# Altium schematic symbol library Microphone_array.SchLib: 27 symbols
Pins are listed as number, name and electrical type; pins without a type are passive.

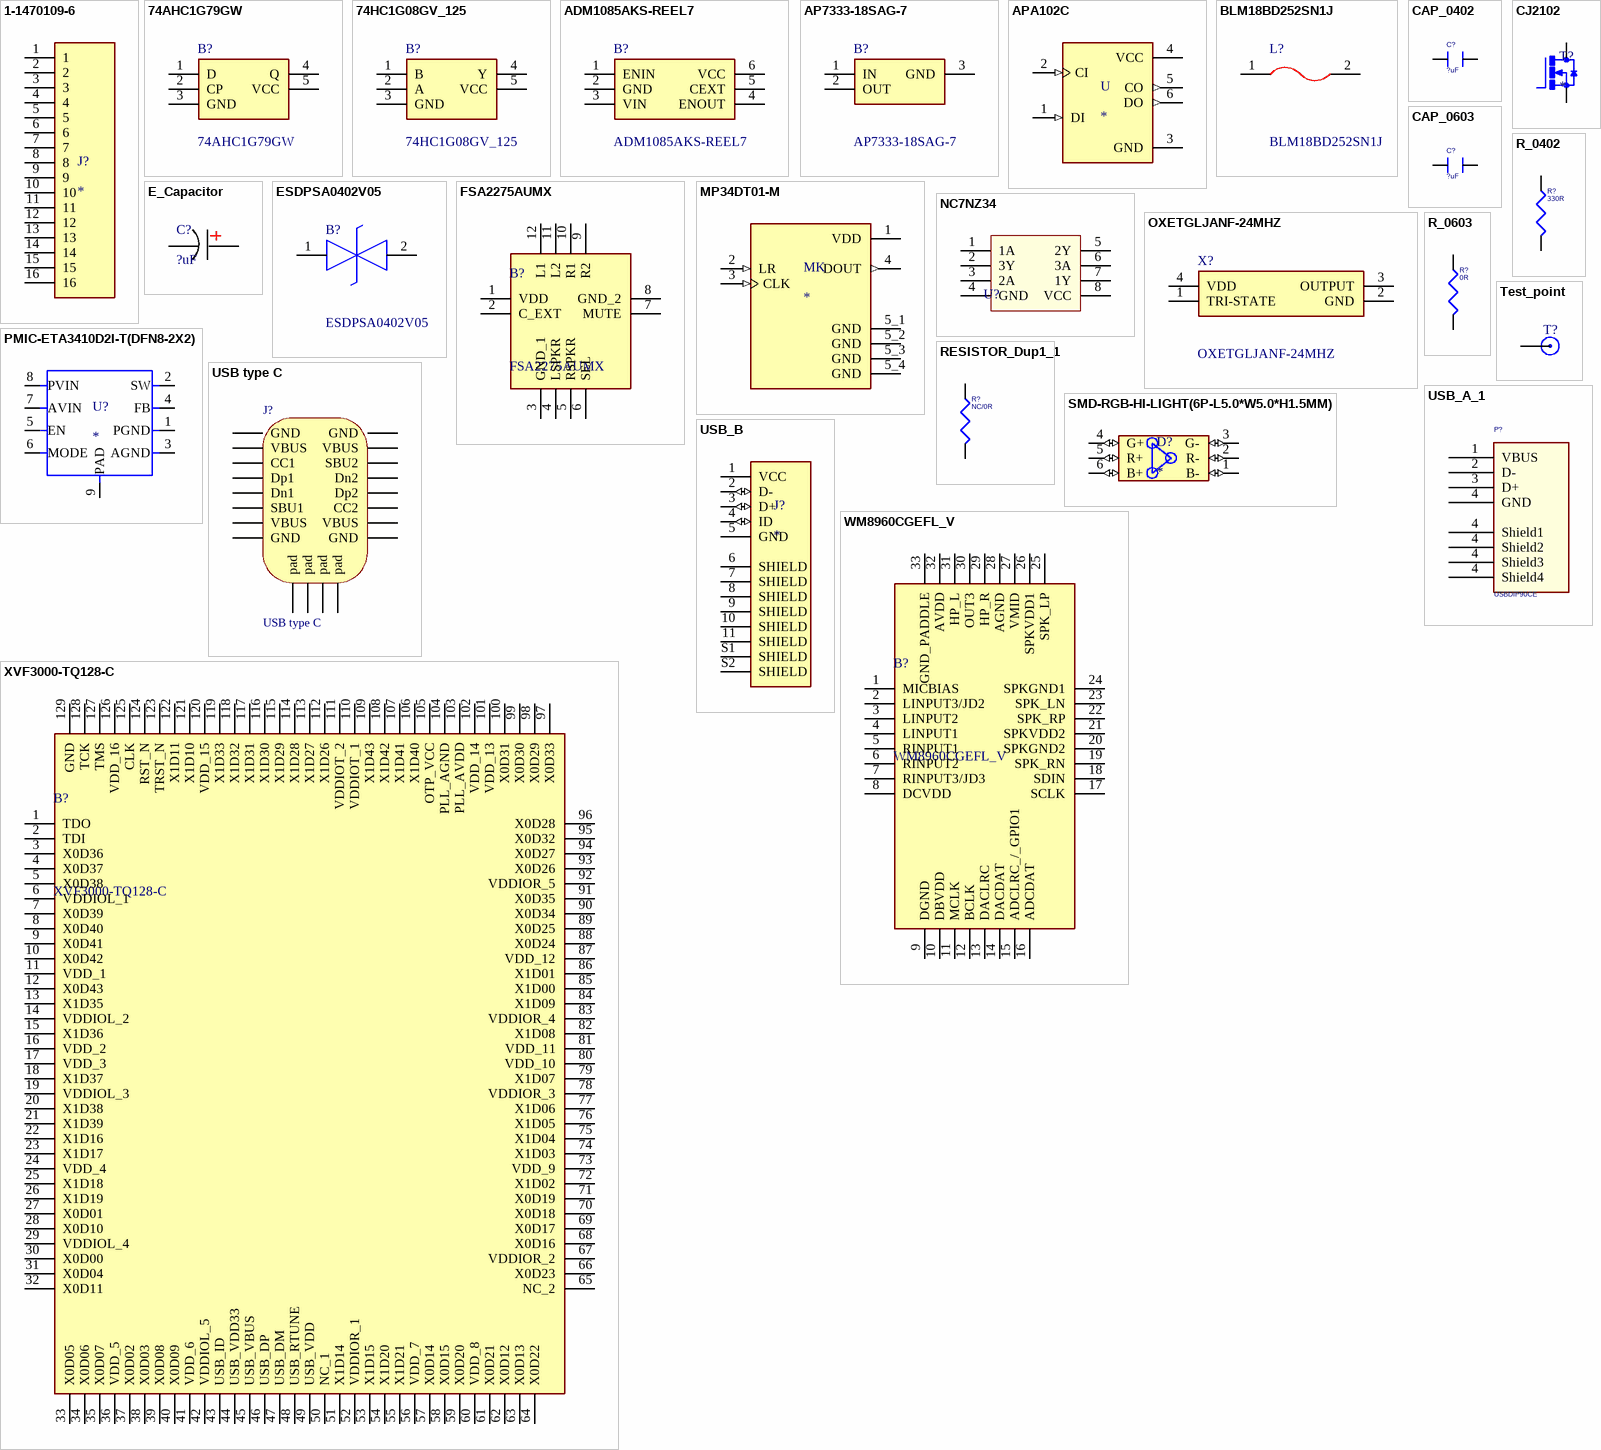
[diagram p0: symbols 1-1470109-6 to XVF3000-TQ128-C]

## 1-1470109-6
designator J?
MP: 1-1470109-6; Package: None; Price: None; Value: *; Availability: Unavailable
footprint TE_1-1470109-6
pins: 1, 2, 3, 4, 5, 6, 7, 8, 9, 10, 11, 12, 13, 14, 15, 16

## 74AHC1G79GW
designator B?
NXP 74AHC1G79GW, Flip Flop IC, Single Ended, 2  5.5 V, 5-Pin TSSOP; Manufacturer_Name: Nexperia; Geometry.Height: 1.1mm; Manufacturer_Part_Number: 74AHC1G79GW; Mouser Part Number: N/A; Mouser Price/Stock: https://www.mouser.com/Search/Refine.aspx?Keyword=N%2FA; Arrow Part Number: *; Arrow Price/Stock: *; Datasheet Link: https://datasheet.datasheetarchive.com/originals/distributors/Datasheets-301/11791.pdf
footprint SOT65P212X110-5N
pins: 1 D, 2 CP, 3 GND, 4 Q, 5 VCC

## 74HC1G08GV_125
designator B?
74HC(T)1G08 - 2-input AND gate@en-us; Manufacturer_Name: Nexperia; Manufacturer_Part_Number: 74HC1G08GV,125; Geometry.Height: 1.1mm; Mouser Part Number: 771-74HC1G08GV; Mouser Price/Stock: https://www.mouser.co.uk/ProductDetail/Nexperia/74HC1G08GV125?qs=P62ublwmbi9shys2yLaZlQ%3D%3D; Arrow Part Number: 74HC1G08GV,125; Arrow Price/Stock: https://www.arrow.com/en/products/74hc1g08gv125/nexperia?region=nac; Datasheet Link: https://assets.nexperia.com/documents/data-sheet/74HC_HCT1G08.pdf
footprint SOT65P212X110-5N
pins: 1 B, 2 A, 3 GND, 4 Y, 5 VCC

## ADM1085AKS-REEL7
designator B?
IC SIMPLE SEQUENCER OD SC70-6; Manufacturer_Name: Analog Devices; Geometry.Height: 1.1mm; Manufacturer_Part_Number: ADM1085AKS-REEL7; Mouser Part Number: *; Mouser Price/Stock: *; Arrow Part Number: *; Arrow Price/Stock: *; Datasheet Link: http://www.analog.com/media/en/technical-documentation/data-sheets/ADM1085_1086_1087.pdf
footprint SOT65P210X110-6N
pins: 1 ENIN, 2 GND, 3 VIN, 4 ENOUT, 5 CEXT, 6 VCC

## AP7333-18SAG-7
designator B?
Diodes Inc AP7333-18SAG-7, Single Linear Voltage Regulator, 300mA 1.8 V, +/-2%, 3-Pin SOT-23; Manufacturer_Name: Diodes Inc.; Geometry.Height: 1.35mm; Manufacturer_Part_Number: AP7333-18SAG-7; Mouser Part Number: 621-AP7333-18SAG-7; Mouser Price/Stock: https://www.mouser.co.uk/ProductDetail/Diodes-Incorporated/AP7333-18SAG-7?qs=vIZ3oKQCLxpEALu0NaomtQ%3D%3D; Arrow Part Number: AP7333-18SAG-7; Arrow Price/Stock: https://www.arrow.com/en/products/ap7333-18sag-7/diodes-incorporated?region=nac; Datasheet Link: https://www.diodes.com/assets/Datasheets/AP7333.pdf
footprint SOT96P240X135-3N
pins: 1 IN, 2 OUT, 3 GND

## APA102C
designator U
Addressable Lighting - 1 LED Discrete Serial Red, Green, Blue _RGB_ 5.00mm L x 5.00mm W; MF: Shiji Lighting; MP: APA102C; Package: SMD-6 Shiji Lightning; Value: *; Availability: Unavailable; SnapEDA_Link: https://www.snapeda.com/parts/APA102C/Shiji%20Lighting/view-part/231897/?ref=snap; Price: None
footprint SON160P500X500X140-6N
pins: 1 DI (in), 2 CI (in), 3 GND (power), 4 VCC (power), 5 CO (out), 6 DO (out)

## BLM18BD252SN1J
designator L?
BLM18_N1J Series EMI Suppression Filter 2500+/-25% at 100MHz 150mA @85; Manufacturer_Name: Murata Electronics; Geometry.Height: 0.95mm; Manufacturer_Part_Number: BLM18BD252SN1J; Mouser Part Number: *; Mouser Price/Stock: *; Arrow Part Number: *; Arrow Price/Stock: *; Datasheet Link: http://www.murata.com/~/media/webrenewal/support/library/catalog/products/emc/emifil/c31e.ashx?la=en-gb
footprint BLM18EG121SH1D
pins: 1, 2

## CAP_0402
designator C?, comment ?uF
CAP ±20%/6.3V/X5R/SMT0402
footprint C0402
pins: 1, 2

## CAP_0603
designator C?, comment ?uF
CAP ±20%/10V/X5R/SMT0603
footprint C0603
pins: 1, 2

## CJ2102
designator T?
N-Channel 20V  2.1ASOT-323; MP: MMBF170; MF: ON Semiconductor; Availability: Unavailable; Package: SOT-23 ON Semiconductor; SnapEDA_Link: https://www.snapeda.com/parts/MMBF170/ON%20Semiconductor/view-part/1400962/?ref=snap; Price: None; Value: *
footprint SOT23 (Footprint not found)
pins: 1 G, 2 S, 3 D

## E_Capacitor
designator C?, comment ?uF
footprint E_Capacitor
pins: 1, 2

## ESDPSA0402V05
designator B?
Polymer ESD Suppressor; Manufacturer_Name: Good-Ark; Geometry.Height: 0.45mm; Manufacturer_Part_Number: ESDPSA0402V05; Mouser Part Number: *; Mouser Price/Stock: *; Arrow Part Number: *; Arrow Price/Stock: *; Datasheet Link: https://4donline.ihs.com/images/VipMasterIC/IC/GOAE/GOAE-S-A0000149384/GOAE-S-A0000149384-1.pdf?hkey=EF798316E3902B6ED9A73243A3159BB0
footprint ESDPSA0402V05
pins: 1 K1, 2 K2

## FSA2275AUMX
designator B?
ON Semiconductor FSA2275AUMX, Audio Switch IC DPDT, 3.3 V dc, 12-Pin UMLP; Manufacturer_Name: onsemi; Geometry.Height: 0.6mm; Manufacturer_Part_Number: FSA2275AUMX; Mouser Part Number: 512-FSA2275AUMX; Mouser Price/Stock: https://www.mouser.co.uk/ProductDetail/ON-Semiconductor-Fairchild/FSA2275AUMX?qs=Mv7BduZupUhxHdQdUdEuNg%3D%3D; Arrow Part Number: FSA2275AUMX; Arrow Price/Stock: https://www.arrow.com/en/products/fsa2275aumx/on-semiconductor; Datasheet Link: https://www.onsemi.com/pub/Collateral/FSA2275A-D.pdf
footprint FSA2275AUMX
pins: 1 VDD, 2 C_EXT, 3 GND_1, 4 LSPKR, 5 RSPKR, 6 SEL, 7 MUTE, 8 GND_2, 9 R2, 10 R1, 11 L2, 12 L1

## MP34DT01-M
designator MK
MP34DT01-M MEMS Omnidirectional Microphones Audio Evaluation Board; MF: STMicroelectronics; Availability: Unavailable; Package: None; SnapEDA_Link: https://www.snapeda.com/parts/MP34DT01-M/STMicroelectronics/view-part/590970/?ref=snap; Price: None; MP: MP34DT01-M; Value: *
footprint MIC_MP34DT01-M (Footprint not found)
pins: 1 VDD (power), 2 LR (in), 3 CLK (in), 4 DOUT (out), 5_1 GND (power), 5_2 GND (power), 5_3 GND (power), 5_4 GND (power)

## NC7NZ34
designator U?
On_Semiconductor
footprint NC7NZ34
pins: 1 1A, 2 3Y, 3 2A, 4 GND, 5 2Y, 6 3A, 7 1Y, 8 VCC

## OXETGLJANF-24MHZ
designator X?
3.3V~3.3V -40~+85 15mA +/-50ppm 24MHz SMD3225-4P Oscillators ROHS; Manufacturer_Name: TAITIEN; Geometry.Height: 1.1mm; Manufacturer_Part_Number: OXETGLJANF-24MHZ; Mouser Part Number: *; Mouser Price/Stock: *; Arrow Part Number: *; Arrow Price/Stock: *; Datasheet Link: https://datasheet.lcsc.com/lcsc/1811052217_TAITIEN-Elec-OXETGLJANF-24MHZ_C295524.pdf
footprint OXETGLJANF24MHZ
pins: 1 TRI-STATE, 2 GND, 3 OUTPUT, 4 VDD

## PMIC-ETA3410D2I-T(DFN8-2X2)
designator U?
310030161; MP: ETA3410D2I-T; Package: None; Price: None; Value: *; Availability: Unavailable
footprint ETA3410
pins: 1 PGND, 2 SW, 3 AGND, 4 FB, 5 EN, 6 MODE, 7 AVIN, 8 PVIN, 9 PAD

## R_0402
designator R?, comment 330R
RES 1/16W 5% SMT0402
footprint R 0603 (1/10W贴片电阻)
pins: 1, 2

## R_0603
designator R?, comment 0R
RES 1/8W 5% SMT0603
footprint R0402
pins: 1, 2

## RESISTOR_Dup1_1
designator R?, comment NC/0R
RES 1/16W 5% SMT0402
footprint R0402
pins: 1, 2

## SMD-RGB-HI-LIGHT(6P-L5.0*W5.0*H1.5MM)
designator D?
Addressable Lighting - 1 LED Discrete PWM Red, Green, Blue (RGB) 5.00mm L x 5.00mm W; MF: SparkFun Electronics; MP: 5050RGB; Check_prices: https://www.snapeda.com/parts/5050RGB/SparkFun+Electronics/view-part/?ref=eda; SnapEDA_Link: https://www.snapeda.com/parts/5050RGB/SparkFun+Electronics/view-part/?ref=snap; Availability: Not in stock; Value: *; Price: None; Package: SparkFun Electronics
footprint LED6-SMD-5050
pins: 1 B- (io), 2 R- (io), 3 G- (io), 4 G+ (io), 5 R+ (io), 6 B+ (io)

## Test_point
designator T?  (value not drawn)
footprint Test_point
pins: 1

## USB type C
designator J?
footprint USB TYPE-C-16PIN_A
footprint TYPEC_D
pins: 1 pad, 1 pad, 1 pad, 1 pad, A1 GND, A4 VBUS, A5 CC1, A6 Dp1, A7 Dn1, A8 SBU1, A9 VBUS, A12 GND, B1 GND, B4 VBUS, B5 CC2, B6 Dp2, B7 Dn2, B8 SBU2, B9 VBUS, B12 GND

## USB_A_1
designator P?, comment USBDIP90CE
USB-AF-04-002 无卷边
footprint USB_A_1
footprint USB-A/S_A (A型直插母头，)
pins: 1 VBUS, 2 D-, 3 D+, 4 GND, 4 Shield1, 4 Shield2, 4 Shield3, 4 Shield4

## USB_B
designator J?
USB - micro B USB 2.0 Receptacle Connector 5 Position Surface Mount, Right Angle; Through Hole; MP: 10103594-0001LF; Value: *; Package: None; Availability: Unavailable; Price: None
footprint AMPHENOL_10103594-0001LF
pins: 1 VCC (power), 2 D- (io), 3 D+ (io), 4 ID (io), 5 GND (power), 6 SHIELD, 7 SHIELD, 8 SHIELD, 9 SHIELD, 10 SHIELD, 11 SHIELD, S1 SHIELD, S2 SHIELD

## WM8960CGEFL_V
designator B?
Interface - CODECs Stereo CODEC with 1W DRIVER; Manufacturer_Name: Cirrus Logic; Manufacturer_Part_Number: WM8960CGEFL/V; Geometry.Height: 1mm; Mouser Part Number: 238-WM8960CGEFL/V; Mouser Price/Stock: https://www.mouser.co.uk/ProductDetail/Cirrus-Logic/WM8960CGEFL-V?qs=G8wrXCBxhFteielmzwPrEw%3D%3D; Arrow Part Number: *; Arrow Price/Stock: *; Datasheet Link: https://componentsearchengine.com/Datasheets/1/WM8960CGEFL_V.pdf
footprint QFN50P500X500X100-33N
pins: 1 MICBIAS, 2 LINPUT3/JD2, 3 LINPUT2, 4 LINPUT1, 5 RINPUT1, 6 RINPUT2, 7 RINPUT3/JD3, 8 DCVDD, 9 DGND, 10 DBVDD, 11 MCLK, 12 BCLK, 13 DACLRC, 14 DACDAT, 15 ADCLRC_/_GPIO1, 16 ADCDAT, 17 SCLK, 18 SDIN, 19 SPK_RN, 20 SPKGND2, 21 SPKVDD2, 22 SPK_RP, 23 SPK_LN, 24 SPKGND1, 25 SPK_LP, 26 SPKVDD1, 27 VMID, 28 AGND, 29 HP_R, 30 OUT3, 31 HP_L, 32 AVDD, 33 GND_PADDLE

## XVF3000-TQ128-C
designator B?
IC PROC 32BIT VOICE XCORE TQ128; Manufacturer_Name: XMOS; Geometry.Height: 1.2mm; Manufacturer_Part_Number: XVF3000-TQ128-C; Mouser Part Number: *; Mouser Price/Stock: *; Arrow Part Number: *; Arrow Price/Stock: *; Datasheet Link: https://datasheet.datasheetarchive.com/originals/distributors/DKDS-37/730530.pdf
footprint QFP40P1600X1600X120-129N
pins: 1 TDO, 2 TDI, 3 X0D36, 4 X0D37, 5 X0D38, 6 VDDIOL_1, 7 X0D39, 8 X0D40, 9 X0D41, 10 X0D42, 11 VDD_1, 12 X0D43, 13 X1D35, 14 VDDIOL_2, 15 X1D36, 16 VDD_2, 17 VDD_3, 18 X1D37, 19 VDDIOL_3, 20 X1D38, 21 X1D39, 22 X1D16, 23 X1D17, 24 VDD_4, 25 X1D18, 26 X1D19, 27 X0D01, 28 X0D10, 29 VDDIOL_4, 30 X0D00, 31 X0D04, 32 X0D11, 33 X0D05, 34 X0D06, 35 X0D07, 36 VDD_5, 37 X0D02, 38 X0D03, 39 X0D08, 40 X0D09, 41 VDD_6, 42 VDDIOL_5, 43 USB_ID, 44 USB_VDD33, 45 USB_VBUS, 46 USB_DP, 47 USB_DM, 48 USB_RTUNE, 49 USB_VDD, 50 NC_1, 51 X1D14, 52 VDDIOR_1, 53 X1D15, 54 X1D20, 55 X1D21, 56 VDD_7, 57 X0D14, 58 X0D15, 59 X0D20, 60 VDD_8, 61 X0D21, 62 X0D12, 63 X0D13, 64 X0D22, 65 NC_2, 66 X0D23, 67 VDDIOR_2, 68 X0D16, 69 X0D17, 70 X0D18, 71 X0D19, 72 X1D02, 73 VDD_9, 74 X1D03, 75 X1D04, 76 X1D05, 77 X1D06, 78 VDDIOR_3, 79 X1D07, 80 VDD_10, 81 VDD_11, 82 X1D08, 83 VDDIOR_4, 84 X1D09, 85 X1D00, 86 X1D01, 87 VDD_12, 88 X0D24, 89 X0D25, 90 X0D34, 91 X0D35, 92 VDDIOR_5, 93 X0D26, 94 X0D27, 95 X0D32, 96 X0D28, 97 X0D33, 98 X0D29, 99 X0D30, 100 X0D31, 101 VDD_13, 102 VDD_14, 103 PLL_AVDD, 104 PLL_AGND, 105 OTP_VCC, 106 X1D40, 107 X1D41, 108 X1D42, 109 X1D43, 110 VDDIOT_1, 111 VDDIOT_2, 112 X1D26, 113 X1D27, 114 X1D28, 115 X1D29, 116 X1D30, 117 X1D31, 118 X1D32, 119 X1D33, 120 VDD_15, 121 X1D10, 122 X1D11, 123 TRST_N, 124 RST_N, 125 CLK, 126 VDD_16, 127 TMS, 128 TCK, 129 GND